# Altium schematic symbol library holtek.SCHLIB: 13 symbols
Pins are listed as number, name and electrical type; pins without a type are passive.

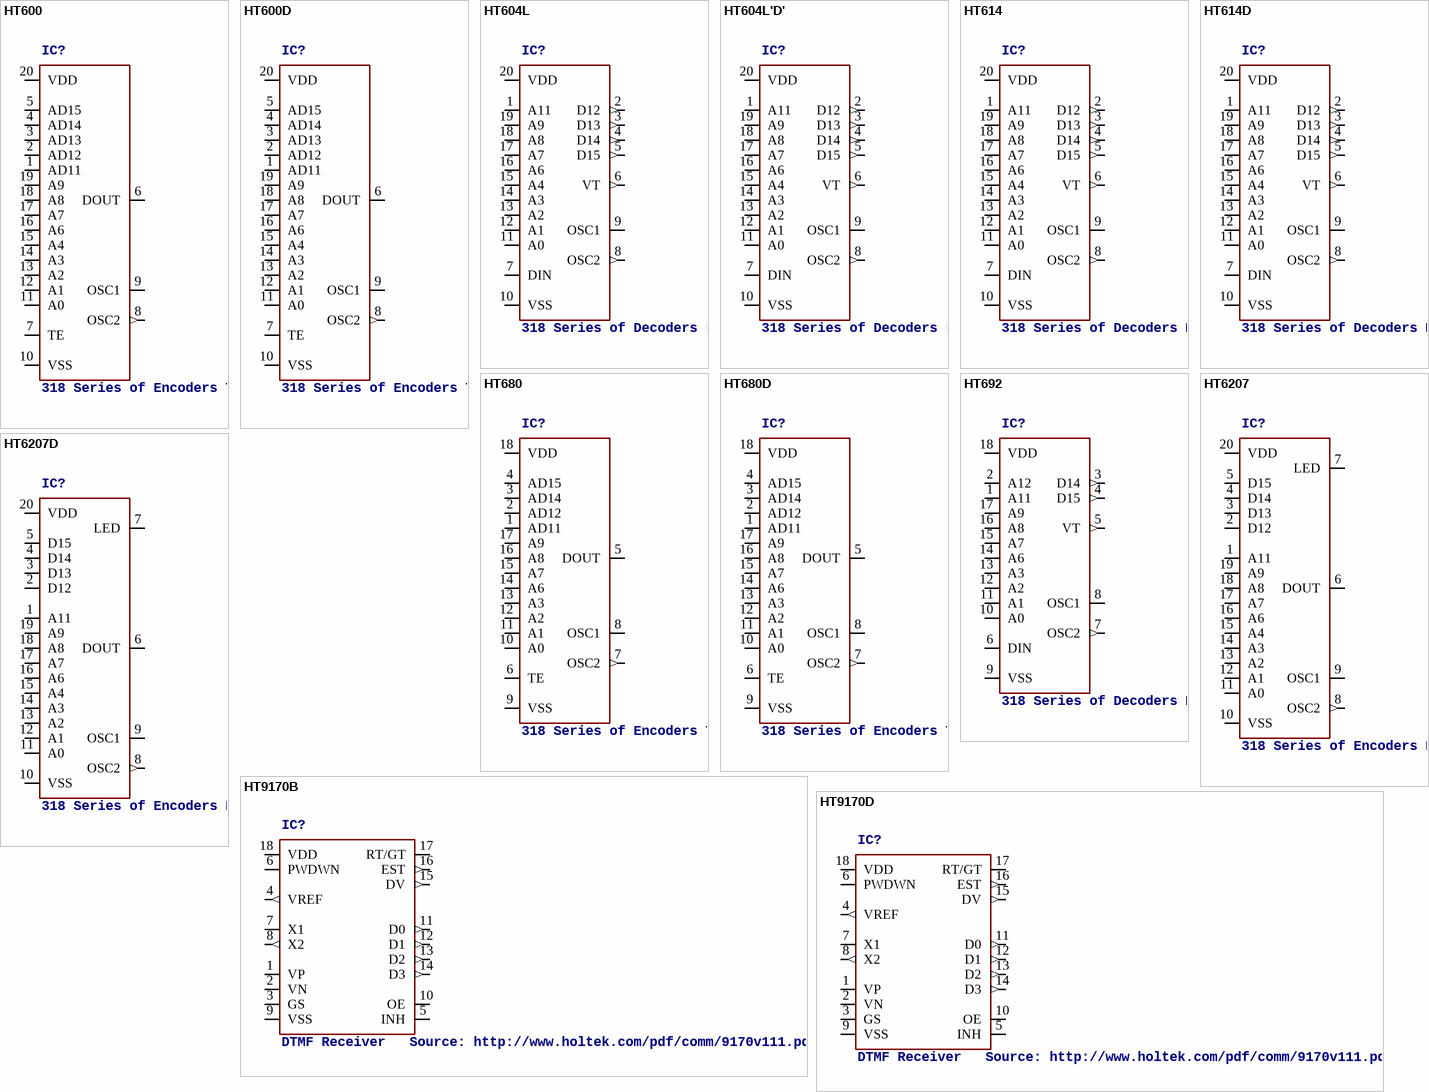
[diagram p0: symbols HT600 to HT9170D]

## HT600
designator IC?, comment 318 Series of Encoders TE trigger type   Source: http://www.holtek.com.tw/pdf/consumer/3_18ev110.pdf
OC_FARNELL: unknown; OC_NEWARK: unknown
footprint DIL20
pins: 1 AD11, 2 AD12, 3 AD13, 4 AD14, 5 AD15, 6 DOUT, 7 TE, 8 OSC2 (out), 9 OSC1, 10 VSS (power), 11 A0, 12 A1, 13 A2, 14 A3, 15 A4, 16 A6, 17 A7, 18 A8, 19 A9, 20 VDD (power)

## HT600D
designator IC?, comment 318 Series of Encoders TE trigger type   Source: http://www.holtek.com.tw/pdf/consumer/3_18ev110.pdf
OC_FARNELL: unknown; OC_NEWARK: unknown
footprint SOP20
pins: 1 AD11, 2 AD12, 3 AD13, 4 AD14, 5 AD15, 6 DOUT, 7 TE, 8 OSC2 (out), 9 OSC1, 10 VSS (power), 11 A0, 12 A1, 13 A2, 14 A3, 15 A4, 16 A6, 17 A7, 18 A8, 19 A9, 20 VDD (power)

## HT604L
designator IC?, comment 318 Series of Decoders Latch Series   Source: http://www.holtek.com.tw/pdf/consumer/3_18dv110.pdf
OC_FARNELL: unknown; OC_NEWARK: unknown
footprint DIL20
pins: 1 A11, 2 D12 (out), 3 D13 (out), 4 D14 (out), 5 D15 (out), 6 VT (out), 7 DIN, 8 OSC2 (out), 9 OSC1, 10 VSS (power), 11 A0, 12 A1, 13 A2, 14 A3, 15 A4, 16 A6, 17 A7, 18 A8, 19 A9, 20 VDD (power)

## HT604L'D'
designator IC?, comment 318 Series of Decoders Latch Series   Source: http://www.holtek.com.tw/pdf/consumer/3_18dv110.pdf
footprint SOP20
pins: 1 A11, 2 D12 (out), 3 D13 (out), 4 D14 (out), 5 D15 (out), 6 VT (out), 7 DIN, 8 OSC2 (out), 9 OSC1, 10 VSS (power), 11 A0, 12 A1, 13 A2, 14 A3, 15 A4, 16 A6, 17 A7, 18 A8, 19 A9, 20 VDD (power)

## HT614
designator IC?, comment 318 Series of Decoders Momentary Series   Source: http://www.holtek.com.tw/pdf/consumer/3_18dv110.pdf
OC_FARNELL: unknown; OC_NEWARK: unknown
footprint DIL20
pins: 1 A11, 2 D12 (out), 3 D13 (out), 4 D14 (out), 5 D15 (out), 6 VT (out), 7 DIN, 8 OSC2 (out), 9 OSC1, 10 VSS (power), 11 A0, 12 A1, 13 A2, 14 A3, 15 A4, 16 A6, 17 A7, 18 A8, 19 A9, 20 VDD (power)

## HT614D
designator IC?, comment 318 Series of Decoders Momentary Series   Source: http://www.holtek.com.tw/pdf/consumer/3_18dv110.pdf
OC_FARNELL: unknown; OC_NEWARK: unknown
footprint SOP20
pins: 1 A11, 2 D12 (out), 3 D13 (out), 4 D14 (out), 5 D15 (out), 6 VT (out), 7 DIN, 8 OSC2 (out), 9 OSC1, 10 VSS (power), 11 A0, 12 A1, 13 A2, 14 A3, 15 A4, 16 A6, 17 A7, 18 A8, 19 A9, 20 VDD (power)

## HT680
designator IC?, comment 318 Series of Encoders TE trigger type   Source: http://www.holtek.com.tw/pdf/consumer/3_18ev110.pdf
OC_FARNELL: unknown; OC_NEWARK: unknown
footprint DIL18
pins: 1 AD11, 2 AD12, 3 AD14, 4 AD15, 5 DOUT, 6 TE, 7 OSC2 (out), 8 OSC1, 9 VSS (power), 10 A0, 11 A1, 12 A2, 13 A3, 14 A6, 15 A7, 16 A8, 17 A9, 18 VDD (power)

## HT680D
designator IC?, comment 318 Series of Encoders TE trigger type   Source: http://www.holtek.com.tw/pdf/consumer/3_18ev110.pdf
OC_FARNELL: unknown; OC_NEWARK: unknown
footprint SOP18
pins: 1 AD11, 2 AD12, 3 AD14, 4 AD15, 5 DOUT, 6 TE, 7 OSC2 (out), 8 OSC1, 9 VSS (power), 10 A0, 11 A1, 12 A2, 13 A3, 14 A6, 15 A7, 16 A8, 17 A9, 18 VDD (power)

## HT692
designator IC?, comment 318 Series of Decoders Momentary Series   Source: http://www.holtek.com.tw/pdf/consumer/3_18dv110.pdf
OC_FARNELL: unknown; OC_NEWARK: unknown
footprint DIL18
pins: 1 A11, 2 A12, 3 D14 (out), 4 D15 (out), 5 VT (out), 6 DIN, 7 OSC2 (out), 8 OSC1, 9 VSS (power), 10 A0, 11 A1, 12 A2, 13 A3, 14 A6, 15 A7, 16 A8, 17 A9, 18 VDD (power)

## HT6207
designator IC?, comment 318 Series of Encoders DATA trigger type   Source: http://www.holtek.com.tw/pdf/consumer/3_18ev110.pdf
OC_FARNELL: unknown; OC_NEWARK: unknown
footprint DIL20
pins: 1 A11, 2 D12, 3 D13, 4 D14, 5 D15, 6 DOUT, 7 LED, 8 OSC2 (out), 9 OSC1, 10 VSS (power), 11 A0, 12 A1, 13 A2, 14 A3, 15 A4, 16 A6, 17 A7, 18 A8, 19 A9, 20 VDD (power)

## HT6207D
designator IC?, comment 318 Series of Encoders DATA trigger type   Source: http://www.holtek.com.tw/pdf/consumer/3_18ev110.pdf
OC_FARNELL: unknown; OC_NEWARK: unknown
footprint SOP20
pins: 1 A11, 2 D12, 3 D13, 4 D14, 5 D15, 6 DOUT, 7 LED, 8 OSC2 (out), 9 OSC1, 10 VSS (power), 11 A0, 12 A1, 13 A2, 14 A3, 15 A4, 16 A6, 17 A7, 18 A8, 19 A9, 20 VDD (power)

## HT9170B
designator IC?, comment DTMF Receiver   Source: http://www.holtek.com/pdf/comm/9170v111.pdf
OC_FARNELL: unknown; OC_NEWARK: unknown
footprint DIL18
pins: 1 VP, 2 VN, 3 GS, 4 VREF (out), 5 INH, 6 PWDWN, 7 X1, 8 X2 (out), 9 VSS (power), 10 OE, 11 D0 (out), 12 D1 (out), 13 D2 (out), 14 D3 (out), 15 DV (out), 16 EST (out), 17 RT/GT, 18 VDD (power)

## HT9170D
designator IC?, comment DTMF Receiver   Source: http://www.holtek.com/pdf/comm/9170v111.pdf
MPN: HT9170D-18SOPLF; MF: HOLTEK; OC_FARNELL: 1420879; OC_NEWARK: 53M7847
footprint SO18L
pins: 1 VP, 2 VN, 3 GS, 4 VREF (out), 5 INH, 6 PWDWN, 7 X1, 8 X2 (out), 9 VSS (power), 10 OE, 11 D0 (out), 12 D1 (out), 13 D2 (out), 14 D3 (out), 15 DV (out), 16 EST (out), 17 RT/GT, 18 VDD (power)